# Altium schematic symbol library Detachable terminal blocks.SchLib: 18 symbols
Pins are listed as number, name and electrical type; pins without a type are passive.

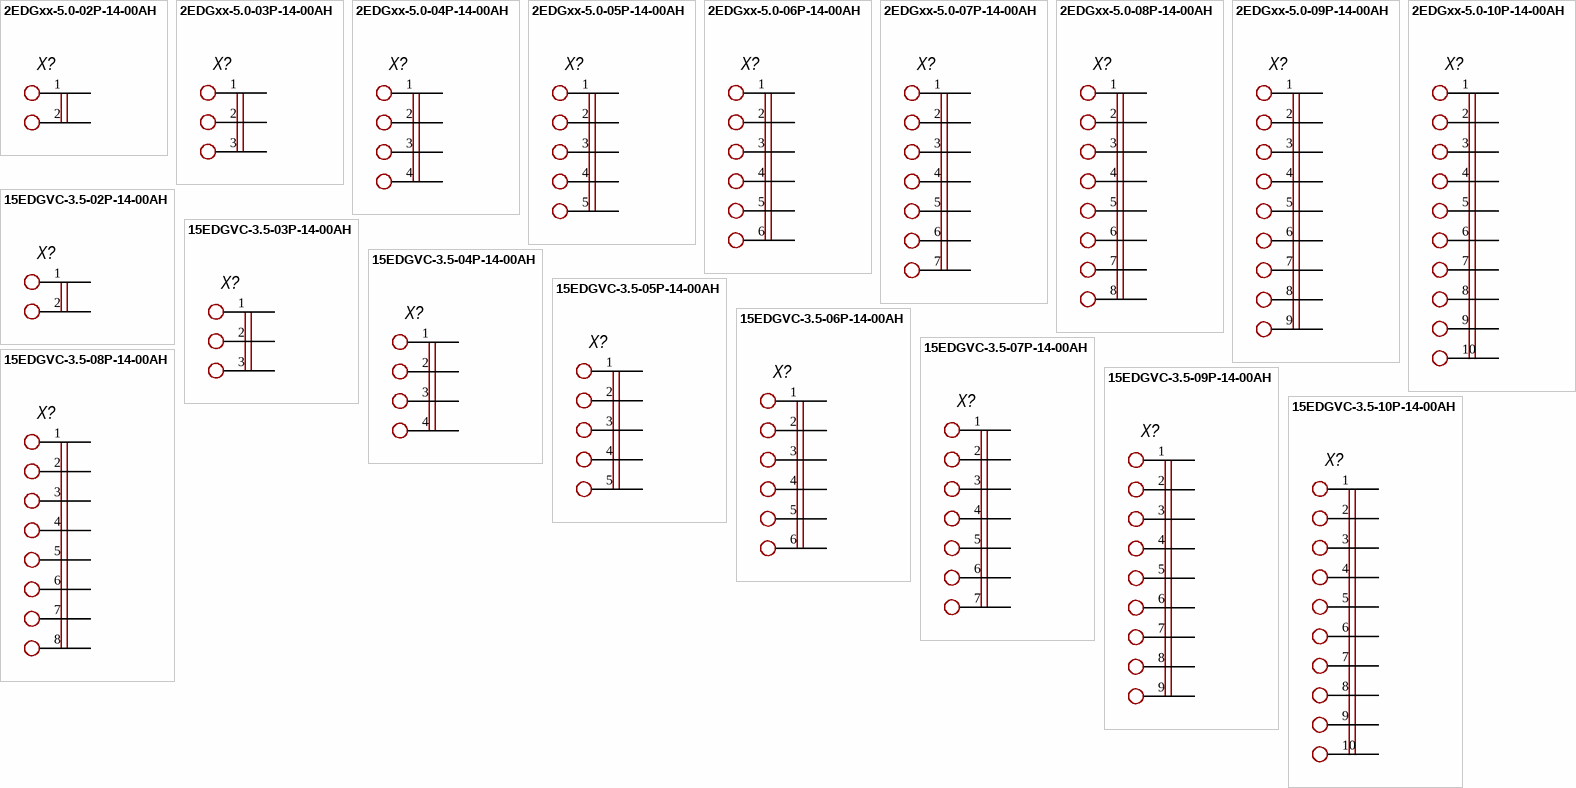
[diagram p0: symbols 2EDGxx-5.0-02P-14-00AH to 15EDGVC-3.5-10P-14-00AH]

## 2EDGxx-5.0-02P-14-00AH
designator X?
Model: *; Manufcacture: *; HelpURL: *; Case: *; Value: *
footprint 2EDGVM-5.0-02P-14-00AH
footprint 2EDGRM-5.0-02P-14-00AH
footprint 2EDGR-5.0-02P-14-00AH
pins: 1, 2

## 2EDGxx-5.0-03P-14-00AH
designator X?
Model: *; Manufcacture: *; HelpURL: *; Case: *; Value: *
footprint 2EDGVM-5.0-03P-14-00AH
pins: 1, 2, 3

## 2EDGxx-5.0-04P-14-00AH
designator X?
Model: *; Manufcacture: *; HelpURL: *; Case: *; Value: *
footprint 2EDGVM-5.0-04P-14-00AH
footprint 2EDGVM-5.0-04P-14-00AH
pins: 1, 2, 3, 4

## 2EDGxx-5.0-05P-14-00AH
designator X?
Model: *; Manufcacture: *; HelpURL: *; Case: *; Value: *
footprint 2EDGVM-5.0-05P-14-00AH
pins: 1, 2, 3, 4, 5

## 2EDGxx-5.0-06P-14-00AH
designator X?
Model: *; Manufcacture: *; HelpURL: *; Case: *; Value: *
footprint 2EDGVM-5.0-06P-14-00AH
pins: 1, 2, 3, 4, 5, 6

## 2EDGxx-5.0-07P-14-00AH
designator X?
Model: *; Manufcacture: *; HelpURL: *; Case: *; Value: *
footprint 2EDGVM-5.0-07P-14-00AH
pins: 1, 2, 3, 4, 5, 6, 7

## 2EDGxx-5.0-08P-14-00AH
designator X?
Model: *; Manufcacture: *; HelpURL: *; Case: *; Value: *
footprint 2EDGVM-5.0-08P-14-00AH
pins: 1, 2, 3, 4, 5, 6, 7, 8

## 2EDGxx-5.0-09P-14-00AH
designator X?
Model: *; Manufcacture: *; HelpURL: *; Case: *; Value: *
footprint 2EDGVM-5.0-09P-14-00AH
pins: 1, 2, 3, 4, 5, 6, 7, 8, 9

## 2EDGxx-5.0-10P-14-00AH
designator X?
Model: *; Manufcacture: *; HelpURL: *; Case: *; Value: *
footprint 2EDGVM-5.0-10P-14-00AH
pins: 1, 2, 3, 4, 5, 6, 7, 8, 9, 10

## 15EDGVC-3.5-02P-14-00AH
designator X?
Model: *; Manufcacture: *; HelpURL: *; Case: *; Value: *
footprint 15EDGVC-3.5-xxP-14-00AH
pins: 1, 2

## 15EDGVC-3.5-03P-14-00AH
designator X?
Model: *; Manufcacture: *; HelpURL: *; Case: *; Value: *
footprint 15EDGVC-3.5-03P-14-00AH
pins: 1, 2, 3

## 15EDGVC-3.5-04P-14-00AH
designator X?
Model: *; Manufcacture: *; HelpURL: *; Case: *; Value: *
footprint 15EDGVC-3.5-04P-14-00AH
pins: 1, 2, 3, 4

## 15EDGVC-3.5-05P-14-00AH
designator X?
Model: *; Manufcacture: *; HelpURL: *; Case: *; Value: *
footprint 15EDGVC-3.5-05P-14-00AH
pins: 1, 2, 3, 4, 5

## 15EDGVC-3.5-06P-14-00AH
designator X?
Model: *; Manufcacture: *; HelpURL: *; Case: *; Value: *
footprint 15EDGVC-3.5-06P-14-00AH
pins: 1, 2, 3, 4, 5, 6

## 15EDGVC-3.5-07P-14-00AH
designator X?
Model: *; Manufcacture: *; HelpURL: *; Case: *; Value: *
footprint 15EDGVC-3.5-07P-14-00AH
pins: 1, 2, 3, 4, 5, 6, 7

## 15EDGVC-3.5-08P-14-00AH
designator X?
Model: *; Manufcacture: *; HelpURL: *; Case: *; Value: *
footprint 15EDGVC-3.5-08P-14-00AH
pins: 1, 2, 3, 4, 5, 6, 7, 8

## 15EDGVC-3.5-09P-14-00AH
designator X?
Model: *; Manufcacture: *; HelpURL: *; Case: *; Value: *
footprint 15EDGVC-3.5-09P-14-00AH
pins: 1, 2, 3, 4, 5, 6, 7, 8, 9

## 15EDGVC-3.5-10P-14-00AH
designator X?
Model: *; Manufcacture: *; HelpURL: *; Case: *; Value: *
footprint 15EDGVC-3.5-10P-14-00AH
pins: 1, 2, 3, 4, 5, 6, 7, 8, 9, 10